# EAGLE library part 200U (library intercom)
TOGGLE SWITCH Lamb E-switch 200U M2 Digikey EG4911-ND Pads for board edge mounting
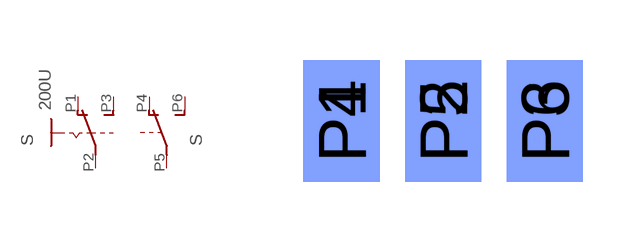
[diagram p0: symbol with the pads of 200U-M2; footprint 200U-M2]

Designator prefix S; gates B=U2 A=SIS-

## 200UM2  [200U-M2]
P1  A:O  pas
P2  A:P  pas
P3  A:S  pas
P4  B:O  pas
P5  B:P  pas
P6  B:S  pas

## Footprint 200U-M2 (pad centres in mm)
SLIDING SWITCH Siemens, distributor Buerklin, 11G766
smd 1.905 x 3.048: P1 -2.54,1.27; P2 0,1.27; P3 2.54,1.27
smd 1.905 x 3.048 bottom: P4 -2.54,1.27; P5 0,1.27; P6 2.54,1.27